# EAGLE library part DUALNCHANNELFET (library CharlieCreations)
Dual N-Channel Mosfet, Vds: 100V, Max Current: 1A cont, 4A pulse
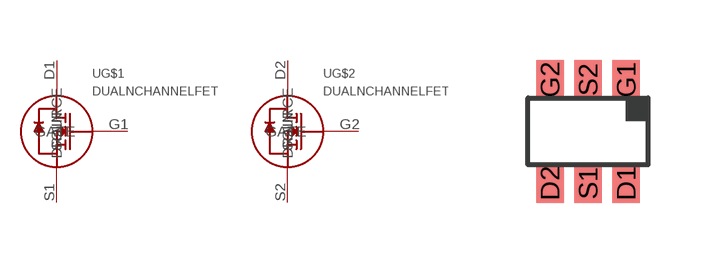
[diagram p13: symbol with the pads of SUPERSOT-6; footprint SUPERSOT-6]

Designator prefix -; gates G$1=NCHANNELFET G$2=NCHANNELFET

## DUALNCHANNELFET  [SUPERSOT-6]
D1  G$1:DRAIN
D2  G$2:DRAIN
G1  G$1:GATE
G2  G$2:GATE
S1  G$1:SOURCE
S2  G$2:SOURCE

## Footprint SUPERSOT-6 (pad centres in mm)
smd 0.686 x 0.991: D1 0.953,-1.295; D2 -0.953,-1.295; G1 0.953,1.295; G2 -0.953,1.295; S1 0,-1.295; S2 0,1.295